# Altium footprint library MULTIPIN_SOP.PcbLib: 1 footprints
Each footprint in its own frame and in the unit in brackets; x right, y up, seen from the top. Pads: shape width x height; smd on the part's side, far side on the other; paste and mask are expansions set on the pad; w line width, h text height; cw(c..) or ccw(c..) is an arc to the next point about the centre after c.
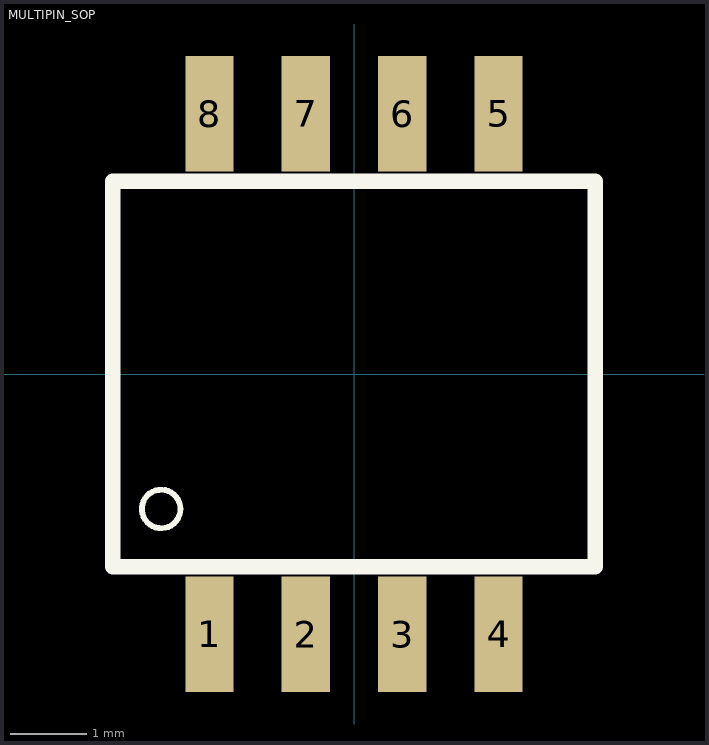
[diagram p0: the footprint, top view; thin cyan lines are the x and y axes]

## MULTIPIN_SOP [mil] "SOP-8 style footprint"
pads (8):
  rect 25x60 smd: 1(-75,-135) 2(-25,-135) 3(25,-135) 4(75,-135) 5(75,135) 6(25,135) 7(-25,135) 8(-75,135)
Top Overlay:
  circle w3: c-100,-70 r10
  lines w8: -125,-100 -125,100 125,100 125,-100 -125,-100